# Altium footprint library ASP-134486-01.PcbLib: 2 footprints
Each footprint in its own frame and in the unit in brackets; x right, y up, seen from the top. Pads: shape width x height; smd on the part's side, far side on the other; paste and mask are expansions set on the pad; w line width, h text height; cw(c..) or ccw(c..) is an arc to the next point about the centre after c.
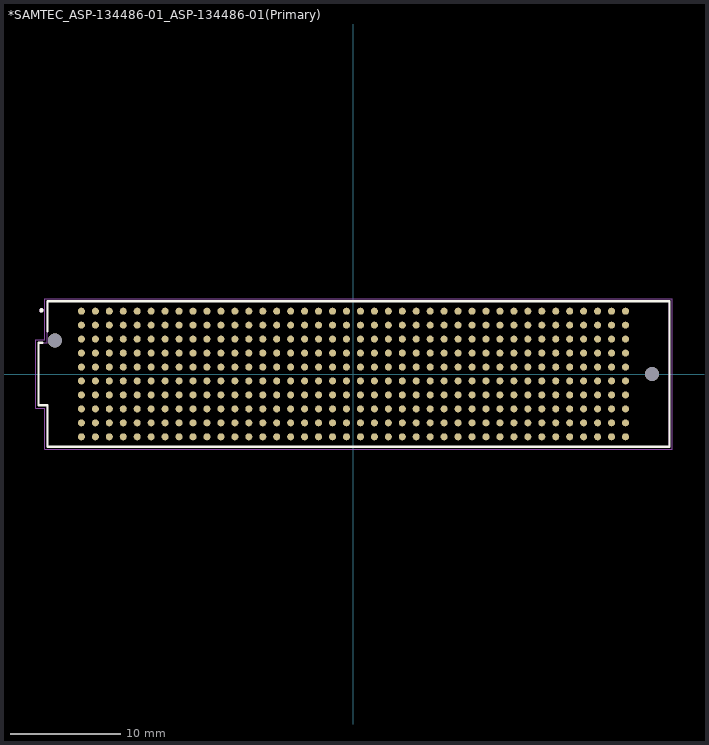
[diagram p0: the footprints below, top view; thin cyan lines are the x and y axes]

## *SAMTEC_ASP-134486-01_ASP-134486-01(Primary) [mm]
pads (402):
  round 0.64 smd: A1(-24.765,5.715) A2(-23.495,5.715) A3(-22.225,5.715) A4(-20.955,5.715) A5(-19.685,5.715) A6(-18.415,5.715) A7(-17.145,5.715) A8(-15.875,5.715) A9(-14.605,5.715) A10(-13.335,5.715) A11(-12.065,5.715) A12(-10.795,5.715) A13(-9.525,5.715) A14(-8.255,5.715) A15(-6.985,5.715) A16(-5.715,5.715) A17(-4.445,5.715) A18(-3.175,5.715) A19(-1.905,5.715) A20(-0.635,5.715) A21(0.635,5.715) A22(1.905,5.715) A23(3.175,5.715) A24(4.445,5.715) A25(5.715,5.715) A26(6.985,5.715) A27(8.255,5.715) A28(9.525,5.715) A29(10.795,5.715) A30(12.065,5.715) A31(13.335,5.715) A32(14.605,5.715) A33(15.875,5.715) A34(17.145,5.715) A35(18.415,5.715) A36(19.685,5.715) A37(20.955,5.715) A38(22.225,5.715) A39(23.495,5.715) A40(24.765,5.715) B1(-24.765,4.445) B2(-23.495,4.445) B3(-22.225,4.445) B4(-20.955,4.445) B5(-19.685,4.445) B6(-18.415,4.445) B7(-17.145,4.445) B8(-15.875,4.445) B9(-14.605,4.445) B10(-13.335,4.445) B11(-12.065,4.445) B12(-10.795,4.445) B13(-9.525,4.445) B14(-8.255,4.445) B15(-6.985,4.445) B16(-5.715,4.445) B17(-4.445,4.445) B18(-3.175,4.445) B19(-1.905,4.445) B20(-0.635,4.445) B21(0.635,4.445) B22(1.905,4.445) B23(3.175,4.445) B24(4.445,4.445) B25(5.715,4.445) B26(6.985,4.445) B27(8.255,4.445) B28(9.525,4.445) B29(10.795,4.445) B30(12.065,4.445) B31(13.335,4.445) B32(14.605,4.445) B33(15.875,4.445) B34(17.145,4.445) B35(18.415,4.445) B36(19.685,4.445) B37(20.955,4.445) B38(22.225,4.445) B39(23.495,4.445) B40(24.765,4.445) C1(-24.765,3.175) C2(-23.495,3.175) C3(-22.225,3.175) C4(-20.955,3.175) C5(-19.685,3.175) C6(-18.415,3.175) C7(-17.145,3.175) C8(-15.875,3.175) C9(-14.605,3.175) C10(-13.335,3.175) C11(-12.065,3.175) C12(-10.795,3.175) C13(-9.525,3.175) C14(-8.255,3.175) C15(-6.985,3.175) C16(-5.715,3.175) C17(-4.445,3.175) C18(-3.175,3.175) C19(-1.905,3.175) C20(-0.635,3.175) C21(0.635,3.175) C22(1.905,3.175) C23(3.175,3.175) C24(4.445,3.175) C25(5.715,3.175) C26(6.985,3.175) C27(8.255,3.175) C28(9.525,3.175) C29(10.795,3.175) C30(12.065,3.175) C31(13.335,3.175) C32(14.605,3.175) C33(15.875,3.175) C34(17.145,3.175) C35(18.415,3.175) C36(19.685,3.175) C37(20.955,3.175) C38(22.225,3.175) C39(23.495,3.175) C40(24.765,3.175) D1(-24.765,1.905) D2(-23.495,1.905) D3(-22.225,1.905) D4(-20.955,1.905) D5(-19.685,1.905) D6(-18.415,1.905) D7(-17.145,1.905) D8(-15.875,1.905) D9(-14.605,1.905) D10(-13.335,1.905) D11(-12.065,1.905) D12(-10.795,1.905) D13(-9.525,1.905) D14(-8.255,1.905) D15(-6.985,1.905) D16(-5.715,1.905) D17(-4.445,1.905) D18(-3.175,1.905) D19(-1.905,1.905) D20(-0.635,1.905) D21(0.635,1.905) D22(1.905,1.905) D23(3.175,1.905) D24(4.445,1.905) D25(5.715,1.905) D26(6.985,1.905) D27(8.255,1.905) D28(9.525,1.905) D29(10.795,1.905) D30(12.065,1.905) D31(13.335,1.905) D32(14.605,1.905) D33(15.875,1.905) D34(17.145,1.905) D35(18.415,1.905) D36(19.685,1.905) D37(20.955,1.905) D38(22.225,1.905) D39(23.495,1.905) D40(24.765,1.905) E1(-24.765,0.635) E2(-23.495,0.635) E3(-22.225,0.635) E4(-20.955,0.635) E5(-19.685,0.635) E6(-18.415,0.635) E7(-17.145,0.635) E8(-15.875,0.635) E9(-14.605,0.635) E10(-13.335,0.635) E11(-12.065,0.635) E12(-10.795,0.635) E13(-9.525,0.635) E14(-8.255,0.635) E15(-6.985,0.635) E16(-5.715,0.635) E17(-4.445,0.635) E18(-3.175,0.635) E19(-1.905,0.635) E20(-0.635,0.635) E21(0.635,0.635) E22(1.905,0.635) E23(3.175,0.635) E24(4.445,0.635) E25(5.715,0.635) E26(6.985,0.635) E27(8.255,0.635) E28(9.525,0.635) E29(10.795,0.635) E30(12.065,0.635) E31(13.335,0.635) E32(14.605,0.635) E33(15.875,0.635) E34(17.145,0.635) E35(18.415,0.635) E36(19.685,0.635) E37(20.955,0.635) E38(22.225,0.635) E39(23.495,0.635) E40(24.765,0.635) F1(-24.765,-0.635) F2(-23.495,-0.635) F3(-22.225,-0.635) F4(-20.955,-0.635) F5(-19.685,-0.635) F6(-18.415,-0.635) F7(-17.145,-0.635) F8(-15.875,-0.635) F9(-14.605,-0.635) F10(-13.335,-0.635) F11(-12.065,-0.635) F12(-10.795,-0.635) F13(-9.525,-0.635) F14(-8.255,-0.635) F15(-6.985,-0.635) F16(-5.715,-0.635) F17(-4.445,-0.635) F18(-3.175,-0.635) F19(-1.905,-0.635) F20(-0.635,-0.635) F21(0.635,-0.635) F22(1.905,-0.635) F23(3.175,-0.635) F24(4.445,-0.635) F25(5.715,-0.635) F26(6.985,-0.635) F27(8.255,-0.635) F28(9.525,-0.635) F29(10.795,-0.635) F30(12.065,-0.635) F31(13.335,-0.635) F32(14.605,-0.635) F33(15.875,-0.635) F34(17.145,-0.635) F35(18.415,-0.635) F36(19.685,-0.635) F37(20.955,-0.635) F38(22.225,-0.635) F39(23.495,-0.635) F40(24.765,-0.635) G1(-24.765,-1.905) G2(-23.495,-1.905) G3(-22.225,-1.905) G4(-20.955,-1.905) G5(-19.685,-1.905) G6(-18.415,-1.905) G7(-17.145,-1.905) G8(-15.875,-1.905) G9(-14.605,-1.905) G10(-13.335,-1.905) G11(-12.065,-1.905) G12(-10.795,-1.905) G13(-9.525,-1.905) G14(-8.255,-1.905) G15(-6.985,-1.905) G16(-5.715,-1.905) G17(-4.445,-1.905) G18(-3.175,-1.905) G19(-1.905,-1.905) G20(-0.635,-1.905) G21(0.635,-1.905) G22(1.905,-1.905) G23(3.175,-1.905) G24(4.445,-1.905) G25(5.715,-1.905) G26(6.985,-1.905) G27(8.255,-1.905) G28(9.525,-1.905) G29(10.795,-1.905) G30(12.065,-1.905) G31(13.335,-1.905) G32(14.605,-1.905) G33(15.875,-1.905) G34(17.145,-1.905) G35(18.415,-1.905) G36(19.685,-1.905) G37(20.955,-1.905) G38(22.225,-1.905) G39(23.495,-1.905) G40(24.765,-1.905) H1(-24.765,-3.175) H2(-23.495,-3.175) H3(-22.225,-3.175) H4(-20.955,-3.175) H5(-19.685,-3.175) H6(-18.415,-3.175) H7(-17.145,-3.175) H8(-15.875,-3.175) H9(-14.605,-3.175) H10(-13.335,-3.175) H11(-12.065,-3.175) H12(-10.795,-3.175) H13(-9.525,-3.175) H14(-8.255,-3.175) H15(-6.985,-3.175) H16(-5.715,-3.175) H17(-4.445,-3.175) H18(-3.175,-3.175) H19(-1.905,-3.175) H20(-0.635,-3.175) H21(0.635,-3.175) H22(1.905,-3.175) H23(3.175,-3.175) H24(4.445,-3.175) H25(5.715,-3.175) H26(6.985,-3.175) H27(8.255,-3.175) H28(9.525,-3.175) H29(10.795,-3.175) H30(12.065,-3.175) H31(13.335,-3.175) H32(14.605,-3.175) H33(15.875,-3.175) H34(17.145,-3.175) H35(18.415,-3.175) H36(19.685,-3.175) H37(20.955,-3.175) H38(22.225,-3.175) H39(23.495,-3.175) H40(24.765,-3.175) J1(-24.765,-4.445) J2(-23.495,-4.445) J3(-22.225,-4.445) J4(-20.955,-4.445) J5(-19.685,-4.445) J6(-18.415,-4.445) J7(-17.145,-4.445) J8(-15.875,-4.445) J9(-14.605,-4.445) J10(-13.335,-4.445) J11(-12.065,-4.445) J12(-10.795,-4.445) J13(-9.525,-4.445) J14(-8.255,-4.445) J15(-6.985,-4.445) J16(-5.715,-4.445) J17(-4.445,-4.445) J18(-3.175,-4.445) J19(-1.905,-4.445) J20(-0.635,-4.445) J21(0.635,-4.445) J22(1.905,-4.445) J23(3.175,-4.445) J24(4.445,-4.445) J25(5.715,-4.445) J26(6.985,-4.445) J27(8.255,-4.445) J28(9.525,-4.445) J29(10.795,-4.445) J30(12.065,-4.445) J31(13.335,-4.445) J32(14.605,-4.445) J33(15.875,-4.445) J34(17.145,-4.445) J35(18.415,-4.445) J36(19.685,-4.445) J37(20.955,-4.445) J38(22.225,-4.445) J39(23.495,-4.445) J40(24.765,-4.445) K1(-24.765,-5.715) K2(-23.495,-5.715) K3(-22.225,-5.715) K4(-20.955,-5.715) K5(-19.685,-5.715) K6(-18.415,-5.715) K7(-17.145,-5.715) K8(-15.875,-5.715) K9(-14.605,-5.715) K10(-13.335,-5.715) K11(-12.065,-5.715) K12(-10.795,-5.715) K13(-9.525,-5.715) K14(-8.255,-5.715) K15(-6.985,-5.715) K16(-5.715,-5.715) K17(-4.445,-5.715) K18(-3.175,-5.715) K19(-1.905,-5.715) K20(-0.635,-5.715) K21(0.635,-5.715) K22(1.905,-5.715) K23(3.175,-5.715) K24(4.445,-5.715) K25(5.715,-5.715) K26(6.985,-5.715) K27(8.255,-5.715) K28(9.525,-5.715) K29(10.795,-5.715) K30(12.065,-5.715) K31(13.335,-5.715) K32(14.605,-5.715) K33(15.875,-5.715) K34(17.145,-5.715) K35(18.415,-5.715) K36(19.685,-5.715) K37(20.955,-5.715) K38(22.225,-5.715) K39(23.495,-5.715) K40(24.765,-5.715)
  round 1.27 hole 1.27 unplated: None(-27.189,3.05) None(27.191,0)
Top Overlay:
  circle w0.2: c-28.4,5.8 r0.1
  lines w0.2: -28.3,2.85 -28.665,2.85 -28.665,-2.85 -27.865,-2.85 -27.865,-6.615 28.765,-6.615 28.765,6.615 -27.865,6.615 -27.865,3.9
Top Paste:
  drawing of 400 lines, arcs and shapes, not listed
Mechanical 4:
  circle w0.2: c-28.4,5.8 r0.1
  circle w0.2: c-28.4,5.8 r0.1
  lines w0.1: -28.665,-2.85 -27.865,-2.85 ; -28.665,-2.85 -28.665,2.85 ; -28.665,-2.85 -27.865,-2.85 ; -28.665,-2.85 -28.665,2.85 ; -28.665,2.85 -27.865,2.85 ; -28.665,2.85 -27.865,2.85 ; -27.865,-6.615 28.765,-6.615 ; -27.865,-6.615 -27.865,-2.85 ; -27.865,-6.615 28.765,-6.615 ; -27.865,-6.615 -27.865,-2.85 ; -27.865,2.85 -27.865,6.615 ; -27.865,2.85 -27.865,6.615 ; -27.865,6.615 28.765,6.615 ; -27.865,6.615 28.765,6.615 ; 28.765,-6.615 28.765,6.615 ; 28.765,-6.615 28.765,6.615
Mechanical 16:
  lines w0.05: -28.915,-3.1 -28.115,-3.1 -28.115,-6.865 29.015,-6.865 29.015,6.865 -28.115,6.865 -28.115,3.1 -28.915,3.1 -28.915,-3.1

## PCBComponent_1 [mil]